# Altium schematic symbol library POLYGON_TEST.SchLib: 1 symbol
Pins are listed as number, name and electrical type; pins without a type are passive.

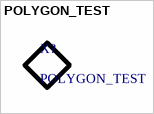
[diagram p0: symbol POLYGON_TEST]

## POLYGON_TEST
designator X?
Polygon test